# EAGLE library part 74LVC1G11 (library mille-feuille)
Single 3-input AND gate
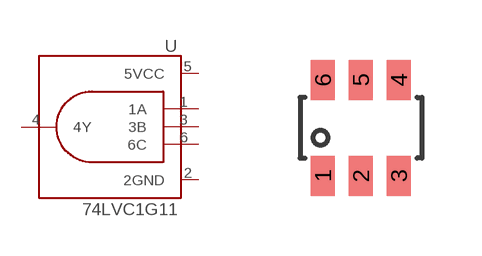
[diagram p54: symbol with the pads of TSOP6; footprint TSOP6]

Designator prefix U

## 74LVC1G11GV  [TSOP6]
1  1A
2  2GND
3  3B
4  4Y
5  5VCC
6  6C

## Footprint TSOP6 (pad centres in mm)
smd 0.6 x 1: 1 -0.95,-1.2; 2 0,-1.2; 3 0.95,-1.2; 4 0.95,1.2; 5 0,1.2; 6 -0.95,1.2